# Altium footprint library JS7688_convert_board_v1.5.0.PcbLib: 3 footprints
Each footprint in its own frame and in the unit in brackets; x right, y up, seen from the top. Pads: shape width x height; smd on the part's side, far side on the other; paste and mask are expansions set on the pad; w line width, h text height; cw(c..) or ccw(c..) is an arc to the next point about the centre after c.
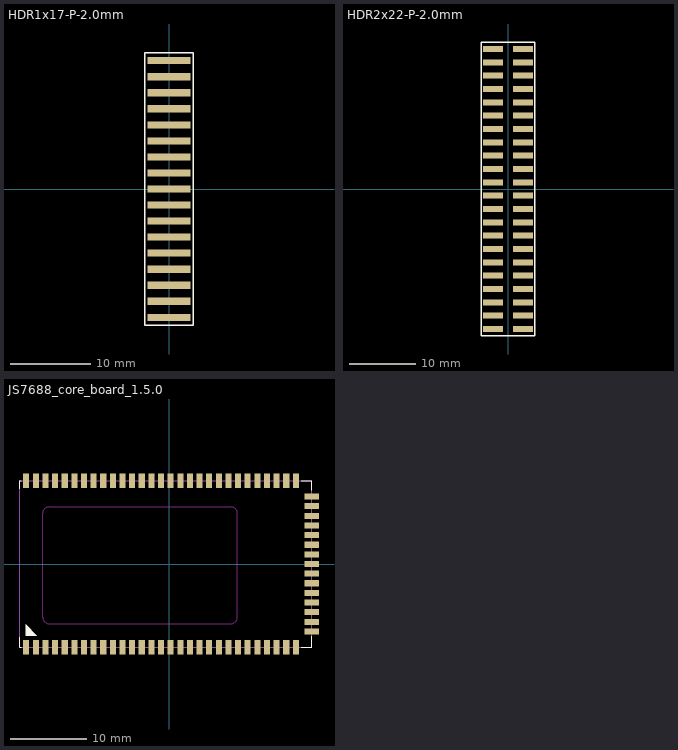
[diagram p0: the footprints below, top view; thin cyan lines are the x and y axes]

## HDR1x17-P-2.0mm [mm]
pads (17):
  rect 5.4x0.89 smd: 1(0,-16) 2(0,-14) 3(0,-12) 4(0,-10) 5(0,-8) 6(0,-6) 7(0,-4) 8(0,-2) 9(0,0) 10(0,2) 11(0,4) 12(0,6) 13(0,8) 14(0,10) 15(0,12) 16(0,14) 17(0,16)
Top Overlay:
  lines w0.2: -3,-17 -3,17 3,17 3,-17 -3,-17
3D body: height 5.5, standoff 0, extent -1,-17 1,17

## HDR2x22-P-2.0mm [mm]
pads (44):
  rect 3x0.89 smd: 1(-2.25,-21) 2(2.25,-21) 3(-2.25,-19) 4(2.25,-19) 5(-2.25,-17) 6(2.25,-17) 7(-2.25,-15) 8(2.25,-15) 9(-2.25,-13) 10(2.25,-13) 11(-2.25,-11) 12(2.25,-11) 13(-2.25,-9) 14(2.25,-9) 15(-2.25,-7) 16(2.25,-7) 17(-2.25,-5) 18(2.25,-5) 19(-2.25,-3) 20(2.25,-3) 21(-2.25,-1) 22(2.25,-1) 23(-2.25,1) 24(2.25,1) 25(-2.25,3) 26(2.25,3) 27(-2.25,5) 28(2.25,5) 29(-2.25,7) 30(2.25,7) 31(-2.25,9) 32(2.25,9) 33(-2.25,11) 34(2.25,11) 35(-2.25,13) 36(2.25,13) 37(-2.25,15) 38(2.25,15) 39(-2.25,17) 40(2.25,17) 41(-2.25,19) 42(2.25,19) 43(-2.25,21) 44(2.25,21)
Top Overlay:
  lines w0.2: -4,-22 4,-22 4,22 -4,22 -4,-22
3D body: height 5.5, standoff 0, extent -2,-22 2,22

## JS7688_core_board_1.5.0 [mm]
pads (73):
  rect 0.8x1.9 smd: 1(-18.83,-11) 2(-17.56,-11) 3(-16.29,-11) 4(-15.02,-11) 5(-13.75,-11) 6(-12.48,-11) 7(-11.21,-11) 8(-9.94,-11) 9(-8.67,-11) 10(-7.4,-11) 11(-6.13,-11) 12(-4.86,-11) 13(-3.59,-11) 14(-2.32,-11) 15(-1.05,-11) 16(0.22,-11) 17(1.49,-11) 18(2.76,-11) 19(4.03,-11) 20(5.3,-11) 21(6.57,-11) 22(7.84,-11) 23(9.11,-11) 24(10.38,-11) 25(11.65,-11) 26(12.92,-11) 27(14.19,-11) 28(15.46,-11) 29(16.73,-11) 45(16.73,11) 46(15.46,11) 47(14.19,11) 48(12.92,11) 49(11.65,11) 50(10.38,11) 51(9.11,11) 52(7.84,11) 53(6.57,11) 54(5.3,11) 55(4.03,11) 56(2.76,11) 57(1.49,11) 58(0.22,11) 59(-1.05,11) 60(-2.32,11) 61(-3.59,11) 62(-4.86,11) 63(-6.13,11) 64(-7.4,11) 65(-8.67,11) 66(-9.94,11) 67(-11.21,11) 68(-12.48,11) 69(-13.75,11) 70(-15.02,11) 71(-16.29,11) 72(-17.56,11) 73(-18.83,11)
  rect 1.9x0.8 smd: 30(18.83,-8.89) 31(18.83,-7.62) 32(18.83,-6.35) 33(18.83,-5.08) 34(18.83,-3.81) 35(18.83,-2.54) 36(18.83,-1.27) 37(18.83,0) 38(18.83,1.27) 39(18.83,2.54) 40(18.83,3.81) 41(18.83,5.08) 42(18.83,6.35) 43(18.83,7.62) 44(18.83,8.89)
Top Overlay:
  region: -17.415,-9.438 -17.415,-9.45 -18.87,-9.45 -18.87,-7.95
  lines w0.152: -19.67,-9.65 -19.67,-11 -19.47,-11 ; -19.67,9.95 -19.67,11 -19.47,11 ; 17.43,-11 18.83,-11 18.83,-9.55 ; 17.43,11 18.83,11 18.83,9.7
Keep-Out Layer:
  lines w0.152: -16.68,-7.013 ccw(c-15.83,-7.013) -15.83,-7.863 8.18,-7.863 ccw(c8.18,-7.013) 9.03,-7.013 9.03,6.667 ccw(c8.18,6.667) 8.18,7.517 -15.83,7.517 ccw(c-15.83,6.667) -16.68,6.667 -16.68,-7.003
Mechanical 15:
  lines w0.15: -19.67,-11 18.83,-11 18.83,11 -19.67,11 -19.67,-11
3D body: height 2.5, standoff 0, extent -19.67,-11 18.83,11
3D body: height 0, standoff -1, extent -16.18,-7.36 8.53,7.02